# EAGLE library part TLW-120-05-G-D (library SAMTEC-Txx_By_element14_Batch_1)
LOW PROFILE HEADER, DOUBLE ROW, 40 way
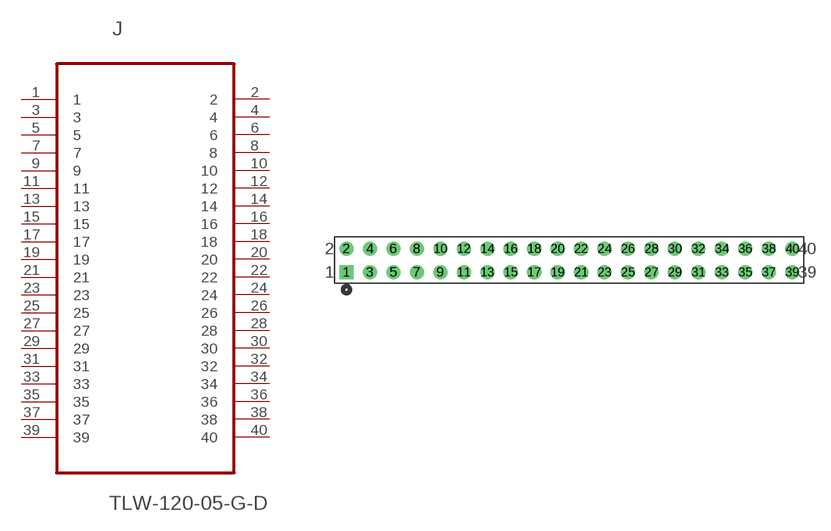
[diagram p250: symbol with the pads of SAMTEC_TLW-120-05-G-D; footprint SAMTEC_TLW-120-05-G-D]

Designator prefix J

## TLW-120-05-G-D (MPN: TLW-120-05-G-D; OC_FARNELL: 1668513; OC_NEWARK: 12P0512; PACKAGE: LOW PROFILE HEADER; SUPPLIER: SAMTEC)  [SAMTEC_TLW-120-05-G-D]
1  1  pas
2  2  pas
3  3  pas
4  4  pas
5  5  pas
6  6  pas
7  7  pas
8  8  pas
9  9  pas
10  10  pas
11  11  pas
12  12  pas
13  13  pas
14  14  pas
15  15  pas
16  16  pas
17  17  pas
18  18  pas
19  19  pas
20  20  pas
21  21  pas
22  22  pas
23  23  pas
24  24  pas
25  25  pas
26  26  pas
27  27  pas
28  28  pas
29  29  pas
30  30  pas
31  31  pas
32  32  pas
33  33  pas
34  34  pas
35  35  pas
36  36  pas
37  37  pas
38  38  pas
39  39  pas
40  40  pas

## Footprint SAMTEC_TLW-120-05-G-D (pad centres in mm)
drill 1.016 square: 1 -48.26,-2.54
drill 1.016: 2 -48.26,0; 3 -45.72,-2.54; 4 -45.72,0; 5 -43.18,-2.54; 6 -43.18,0; 7 -40.64,-2.54; 8 -40.64,0; 9 -38.1,-2.54; 10 -38.1,0; 11 -35.56,-2.54; 12 -35.56,0; 13 -33.02,-2.54; 14 -33.02,0; 15 -30.48,-2.54; 16 -30.48,0; 17 -27.94,-2.54; 18 -27.94,0; 19 -25.4,-2.54; 20 -25.4,0; 21 -22.86,-2.54; 22 -22.86,0; 23 -20.32,-2.54; 24 -20.32,0; 25 -17.78,-2.54; 26 -17.78,0; 27 -15.24,-2.54; 28 -15.24,0; 29 -12.7,-2.54; 30 -12.7,0; 31 -10.16,-2.54; 32 -10.16,0; 33 -7.62,-2.54; 34 -7.62,0; 35 -5.08,-2.54; 36 -5.08,0; 37 -2.54,-2.54; 38 -2.54,0; 39 0,-2.54; 40 0,0